# Altium footprint library CAP_50V_2200uF.PcbLib: 1 footprints
Each footprint in its own frame and in the unit in brackets; x right, y up, seen from the top. Pads: shape width x height; smd on the part's side, far side on the other; paste and mask are expansions set on the pad; w line width, h text height; cw(c..) or ccw(c..) is an arc to the next point about the centre after c.
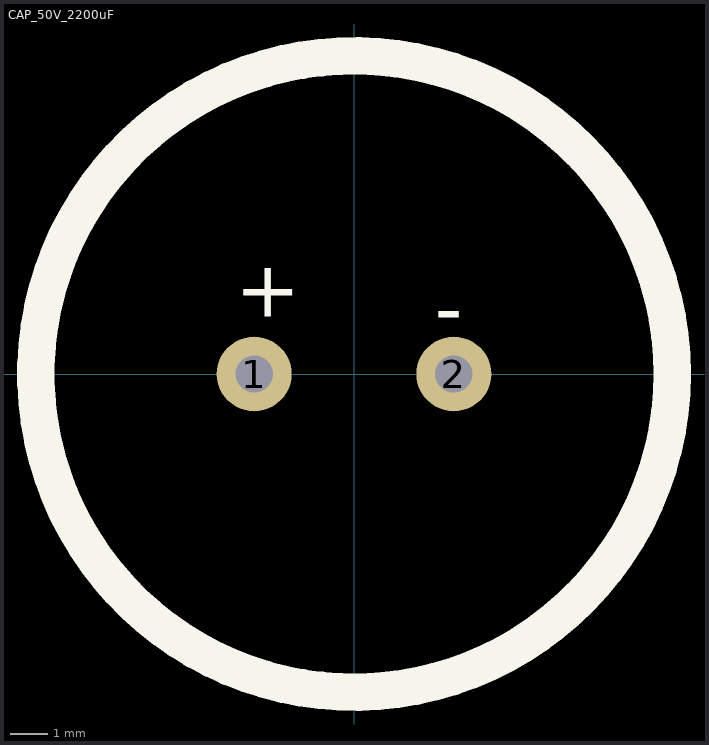
[diagram p0: the footprint, top view; thin cyan lines are the x and y axes]

## CAP_50V_2200uF [mm]
pads (2):
  round 2 hole 1: 1(-2.667,0) 2(2.667,0)
Top Overlay:
  circle w1: c0,0 r8.5
  text "+" at -3.175,1.524 h1.52
  text "-" at 2.159,1.016 h1.52
3D body "HITANO 2200uF 50V ECR85.STEP": height 35.67, standoff -4.03, extent -8.15,-8.15 8.16,8.16